# Altium schematic symbol library DRV8303.SchLib: 1 symbol
Pins are listed as number, name and electrical type; pins without a type are passive.

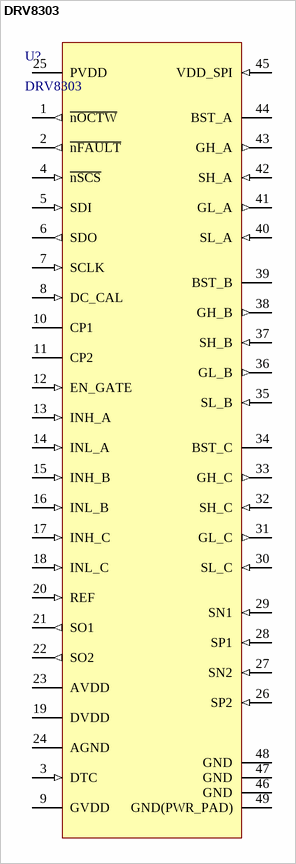
[diagram p0: symbol DRV8303]

## DRV8303
designator U?
=Description
pins: 1 ~{nOCTW} (out), 2 ~{nFAULT} (out), 3 DTC (in), 4 ~{nSCS} (in), 5 SDI (in), 6 SDO (out), 7 SCLK (in), 8 DC_CAL (in), 9 GVDD (power), 10 CP1 (power), 11 CP2 (power), 12 EN_GATE (in), 13 INH_A (in), 14 INL_A (in), 15 INH_B (in), 16 INL_B (in), 17 INH_C (in), 18 INL_C (in), 19 DVDD (power), 20 REF (in), 21 SO1 (out), 22 SO2 (out), 23 AVDD (power), 24 AGND (power), 25 PVDD (power), 26 SP2 (in), 27 SN2 (in), 28 SP1 (in), 29 SN1 (in), 30 SL_C (in), 31 GL_C (out), 32 SH_C (in), 33 GH_C (out), 34 BST_C (power), 35 SL_B (in), 36 GL_B (out), 37 SH_B (in), 38 GH_B (out), 39 BST_B (power), 40 SL_A (in), 41 GL_A (out), 42 SH_A (in), 43 GH_A (out), 44 BST_A (power), 45 VDD_SPI (in), 46 GND (power), 47 GND (power), 48 GND (power), 49 GND(PWR_PAD) (power)